# Altium footprint library NewLibrary.PcbLib: 126 footprints (part 5 of 8)
Each footprint in its own frame and in the unit in brackets; x right, y up, seen from the top. Pads: shape width x height; smd on the part's side, far side on the other; paste and mask are expansions set on the pad; w line width, h text height; cw(c..) or ccw(c..) is an arc to the next point about the centre after c.
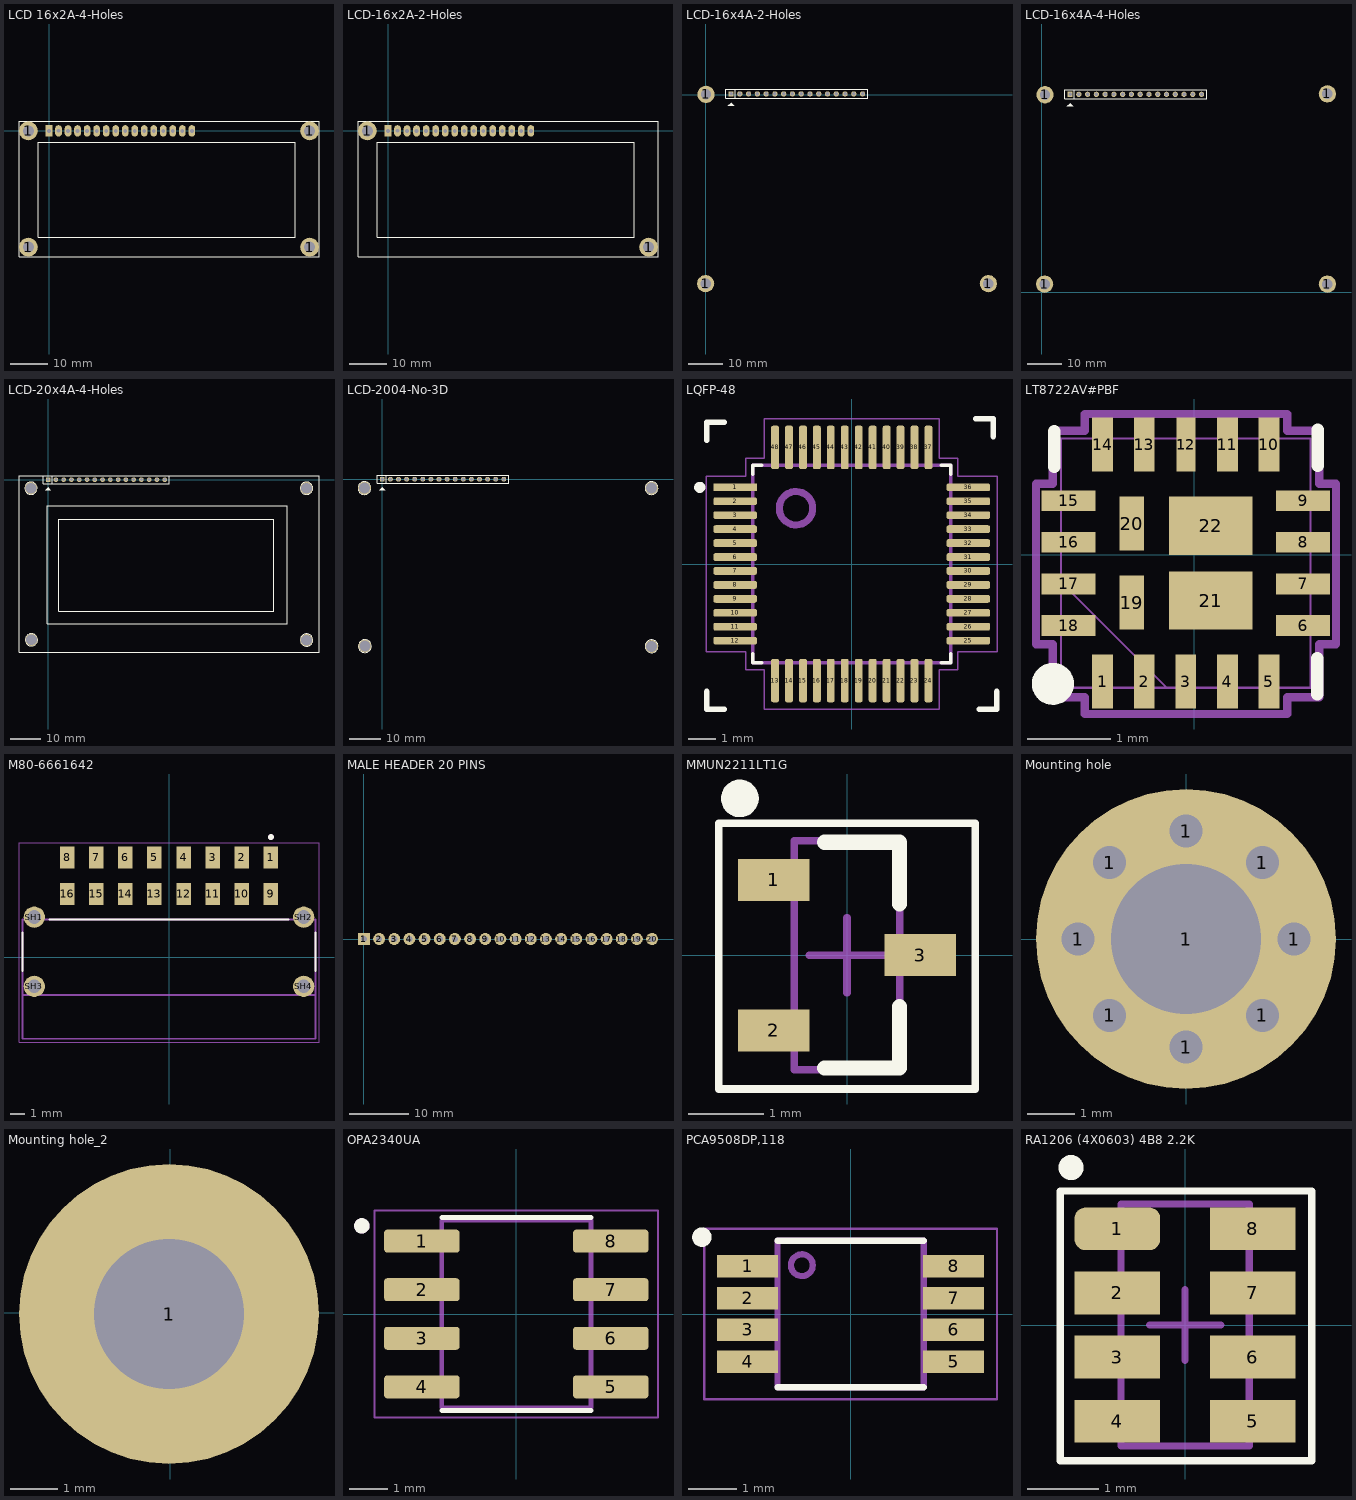
[diagram p4: the footprints below, top view; thin cyan lines are the x and y axes]

## LCD 16x2A-4-Holes [mil] "LCD 16x2 16 Pins"
pads (21):
  round 196.85 hole 118.11: 1(-216.54,-1221.47) 1(-216.54,-1) 1(2736.22,-1221.47) 1(2736.22,-1)
  rect 70x120 hole 39.37: 1(0,-1)
  oval 70x120 hole 39.37: 2(100,-0.98) 3(200,-1) 4(300,-1) 5(400,-1) 6(500,-1) 7(600,-1) 8(700,-1) 9(800,-1) 10(900,-1) 11(1000,-1) 12(1100,-1) 13(1200,-1) 14(1300,-1) 15(1400,-1) 16(1500,-1)
  round 0 all layers, no hole: ""(-216.54,-1)
Top Overlay:
  lines w7.87: -314.96,-1319.9 2834.65,-1319.9 2834.65,97.43 -314.96,97.43 -314.96,-1319.9 ; -115,-1120 2585,-1120 2585,-120 -115,-120 -115,-1120
3D body "jp16.stp": height 468.11, standoff -20.08, extent -48,-53 1548.06,45.43
3D body "socket16.stp": height 276.19, standoff -117.51, extent -47.54,-53.47 1552.46,46.53
3D body "LCD module 16 X 2 backlight.STEP": height 714, standoff 194, extent -309.65,-1338 2859.65,99

## LCD-16x2A-2-Holes [mil] "DIP"
pads (19):
  round 196.85 hole 118.11: 1(-216.54,0) 1(2736.22,-1220.47)
  rect 70x120 hole 39.37: 1(0,0)
  oval 70x120 hole 39.37: 2(100,0.02) 3(200,0) 4(300,0) 5(400,0) 6(500,0) 7(600,0) 8(700,0) 9(800,0) 10(900,0) 11(1000,0) 12(1100,0) 13(1200,0) 14(1300,0) 15(1400,0) 16(1500,0)
  round 0 all layers, no hole: ""(-216.54,0)
Top Overlay:
  lines w7.87: -314.96,-1318.9 2834.65,-1318.9 2834.65,98.43 -314.96,98.43 -314.96,-1318.9 ; -115,-1119 2585,-1119 2585,-119 -115,-119 -115,-1119
3D body "jp16.stp": height 468.11, standoff -20.08, extent -48,-52 1548.06,46.43
3D body "socket16.stp": height 276.19, standoff -117.51, extent -47.54,-52.47 1552.46,47.53
3D body "LCD module 16 X 2 backlight.STEP": height 714, standoff 194, extent -309.65,-1337 2859.65,100

## LCD-16x4A-2-Holes [mm] "DIP"
pads (19):
  round 5 hole 3: 1(0,-54.737) 1(0.127,0.127) 1(81.915,-54.737)
  rect 1.52x1.52 hole 1.02: 1(7.366,0.254)
  round 1.52 hole 1.02: 2(9.906,0.254) 3(12.446,0.254) 4(14.986,0.254) 5(17.526,0.254) 6(20.066,0.254) 7(22.606,0.254) 8(25.146,0.254) 9(27.686,0.254) 10(30.226,0.254) 11(32.766,0.254) 12(35.306,0.254) 13(37.846,0.254) 14(40.386,0.254) 15(42.926,0.254) 16(45.466,0.254)
Top Overlay:
  region: 7.366,-2.286 6.477,-3.175 8.255,-3.175
  lines w0.2: 8.636,-1.016 8.636,1.524 ; 5.846,-1.016 5.846,1.524 8.001,1.524 46.986,1.524 46.986,-1.016 5.846,-1.016
3D body "User Library-FDCC1604A.STEP": height 19.59, standoff 7.19, extent -2.606,-57.206 84.394,2.794
3D body "61301611821.stp": height 8.51, standoff -3.09, extent 5.846,-0.996 46.986,1.504

## LCD-16x4A-4-Holes [mm] "DIP"
pads (20):
  round 5 hole 3: 1(0.762,2.286) 1(0.889,57.15) 1(82.677,2.286) 1(82.677,57.404)
  rect 1.52x1.52 hole 1.02: 1(8.128,57.277)
  round 1.52 hole 1.02: 2(10.668,57.277) 3(13.208,57.277) 4(15.748,57.277) 5(18.288,57.277) 6(20.828,57.277) 7(23.368,57.277) 8(25.908,57.277) 9(28.448,57.277) 10(30.988,57.277) 11(33.528,57.277) 12(36.068,57.277) 13(38.608,57.277) 14(41.148,57.277) 15(43.688,57.277) 16(46.228,57.277)
Top Overlay:
  region: 8.128,54.737 7.239,53.848 9.017,53.848
  lines w0.2: 9.398,56.007 9.398,58.547 ; 6.608,56.007 6.608,58.547 8.763,58.547 47.748,58.547 47.748,56.007 6.608,56.007
3D body "User Library-FDCC1604A.STEP": height 19.59, standoff 7.19, extent -1.844,-0.183 85.156,59.817
3D body "61301611821.stp": height 8.51, standoff -3.09, extent 6.608,56.027 47.748,58.527

## LCD-20x4A-4-Holes [mm]
pads (20):
  rect 1.52x1.52 hole 1.02: 1(0,0)
  round 1.52 hole 1.02: 2(2.54,0) 3(5.08,0) 4(7.62,0) 5(10.16,0) 6(12.7,0) 7(15.24,0) 8(17.78,0) 9(20.32,0) 10(22.86,0) 11(25.4,0) 12(27.94,0) 13(30.48,0) 14(33.02,0) 15(35.56,0) 16(38.1,0)
  round 4 hole 3.5: "Hole 0"(-5.588,-2.794) "Hole 0"(-5.461,-52.324) "Hole 0"(84.455,-52.451) "Hole 0"(84.455,-2.794)
Top Overlay:
  circle w0.178: c84.454,-52.4 r2.008
  circle w0.178: c-5.462,-52.349 r2.008
  circle w0.178: c84.454,-2.794 r2.008
  circle w0.178: c-5.615,-2.794 r2.008
  region: 0,-2.54 -0.889,-3.429 0.889,-3.429
  lines w0.178: -9.525,-56.388 -9.525,1.27 88.519,1.27 88.519,-56.388 -9.5,-56.388 ; -0.279,-47.041 78.13,-47.041 78.13,-8.56 -0.279,-8.56 -0.279,-47.041 ; 3.531,-43.053 73.787,-43.053 73.787,-13.005 3.531,-13.005 3.531,-43.053
  lines w0.2: 1.27,-1.27 1.27,1.27 ; -1.52,-1.27 -1.52,1.27 0.635,1.27 39.62,1.27 39.62,-1.27 -1.52,-1.27
3D body "61301611821.stp": height 8.51, standoff -3.09, extent -1.52,-1.25 39.62,1.25
3D body "User Library-LCD20_4.STEP": height 19.19, standoff 5.39, extent -9.96,-57.511 88.04,2.489

## LCD-2004-No-3D [mm] "DIP"
pads (20):
  rect 1.52x1.52 hole 1.02: 1(0,0)
  round 1.52 hole 1.02: 2(2.54,0) 3(5.08,0) 4(7.62,0) 5(10.16,0) 6(12.7,0) 7(15.24,0) 8(17.78,0) 9(20.32,0) 10(22.86,0) 11(25.4,0) 12(27.94,0) 13(30.48,0) 14(33.02,0) 15(35.56,0) 16(38.1,0)
  round 4 hole 3.5: "Hole 0"(-5.588,-2.794) "Hole 0"(-5.461,-52.324) "Hole 0"(84.455,-52.451) "Hole 0"(84.455,-2.794)
Top Overlay:
  circle w0.178: c-5.615,-2.794 r2.008
  circle w0.178: c84.454,-2.794 r2.008
  circle w0.178: c-5.462,-52.349 r2.008
  circle w0.178: c84.454,-52.4 r2.008
  region: 0,-2.54 -0.889,-3.429 0.889,-3.429
  lines w0.2: 1.27,-1.27 1.27,1.27 ; -1.52,-1.27 39.62,-1.27 39.62,1.27 0.635,1.27 -1.52,1.27 -1.52,-1.27
3D body "61301611821.stp": height 8.51, standoff -3.09, extent -1.52,-1.25 39.62,1.25

## LQFP-48 [mm]
pads (48):
  rect 1.56x0.28 smd: 1(-4.18,2.75)
  rrect50% 1.56x0.28 smd: 2(-4.18,2.25) 3(-4.18,1.75) 4(-4.18,1.25) 5(-4.18,0.75) 6(-4.18,0.25) 7(-4.18,-0.25) 8(-4.18,-0.75) 9(-4.18,-1.25) 10(-4.18,-1.75) 11(-4.18,-2.25) 12(-4.18,-2.75) 25(4.18,-2.75) 26(4.18,-2.25) 27(4.18,-1.75) 28(4.18,-1.25) 29(4.18,-0.75) 30(4.18,-0.25) 31(4.18,0.25) 32(4.18,0.75) 33(4.18,1.25) 34(4.18,1.75) 35(4.18,2.25) 36(4.18,2.75)
  rrect50% 0.28x1.56 smd: 13(-2.75,-4.18) 14(-2.25,-4.18) 15(-1.75,-4.18) 16(-1.25,-4.18) 17(-0.75,-4.18) 18(-0.25,-4.18) 19(0.25,-4.18) 20(0.75,-4.18) 21(1.25,-4.18) 22(1.75,-4.18) 23(2.25,-4.18) 24(2.75,-4.18) 37(2.75,4.18) 38(2.25,4.18) 39(1.75,4.18) 40(1.25,4.18) 41(0.75,4.18) 42(0.25,4.18) 43(-0.25,4.18) 44(-0.75,4.18) 45(-1.25,4.18) 46(-1.75,4.18) 47(-2.25,4.18) 48(-2.75,4.18)
Top Overlay:
  circle w0.2: c-5.45,2.75 r0.1
  lines w0.127: -3.55,-3.22 -3.55,-3.55 -3.22,-3.55 ; -3.55,3.22 -3.55,3.55 -3.22,3.55 ; 3.22,-3.55 3.55,-3.55 3.55,-3.22 ; 3.22,3.55 3.55,3.55 3.55,3.22
  lines w0.2: -5.207,-4.572 -5.207,-5.207 -4.572,-5.207 ; -5.207,4.445 -5.207,5.08 -4.572,5.08 ; 4.445,5.207 5.08,5.207 5.08,4.572 ; 4.572,-5.207 5.207,-5.207 5.207,-4.572
Mechanical 13:
  drawing of 53 lines, arcs and shapes, not listed
Mechanical 15:
  lines w0.05: -5.21,-3.14 -5.21,3.14 -3.8,3.14 -3.8,3.8 -3.14,3.8 -3.14,5.21 3.14,5.21 3.14,3.8 3.8,3.8 3.8,3.14 5.21,3.14 5.21,-3.14 3.8,-3.14 3.8,-3.8 3.14,-3.8 3.14,-5.21 -3.14,-5.21 -3.14,-3.8 -3.8,-3.8 -3.8,-3.14 -5.21,-3.14
3D body "W5500--3DModel-STEP-56544.STEP": height 1.6, standoff 0, extent -4.5,-4.5 4.5,4.5

## LT8722AV#PBF [mm]
pads (22):
  rect 0.25x0.65 smd paste+0 mask+0: 1(-1.102,-1.527) 2(-0.602,-1.527) 3(-0.102,-1.527) 4(0.398,-1.527) 5(0.898,-1.527) 10(0.898,1.323) 11(0.398,1.323) 13(-0.602,1.323) 14(-1.102,1.323)
  rect 0.65x0.25 smd paste+0 mask+0: 6(1.308,-0.852) 7(1.308,-0.352) 8(1.308,0.148) 9(1.308,0.648) 15(-1.512,0.648) 16(-1.512,0.148) 17(-1.512,-0.352) 18(-1.512,-0.852)
  rect 0.229x0.65 smd paste+0 mask+0: 12(-0.102,1.323)
  rect 0.3x0.65 smd paste+0 mask+0: 19(-0.752,-0.577) 20(-0.752,0.373)
  rect 1x0.7 smd paste+0 mask+0: 21(0.198,-0.552) 22(0.198,0.348)
Top Overlay:
  circle w0.254: c-1.7,-1.553 r0.126
  lines w0.152: -1.683,1.057 -1.683,1.485 ; 1.479,-1.675 1.479,-1.247 ; 1.483,1.071 1.483,1.499
Mechanical 13:
  lines w0.025: -1.6,-0.33 -0.33,-1.6 ; -1.6,-1.6 -1.6,1.397 1.397,1.397 1.397,-1.6 -1.6,-1.6 ; -1.6,-0.991 -1.6,-0.712 -1.6,-0.991 ; -1.6,-0.491 -1.6,-0.212 -1.6,-0.491 ; -1.6,0.009 -1.6,0.288 -1.6,0.009 ; -1.6,0.509 -1.6,0.788 -1.6,0.509 ; -1.241,-1.6 -0.962,-1.6 -1.241,-1.6 ; -1.241,1.397 -0.962,1.397 -1.241,1.397 ; -0.741,-1.6 -0.462,-1.6 -0.741,-1.6 ; -0.741,1.397 -0.462,1.397 -0.741,1.397 ; -0.241,-1.6 0.038,-1.6 -0.241,-1.6 ; -0.241,1.397 0.038,1.397 -0.241,1.397 ; 0.259,-1.6 0.538,-1.6 0.259,-1.6 ; 0.259,1.397 0.538,1.397 0.259,1.397 ; 0.759,-1.6 1.038,-1.6 0.759,-1.6 ; 0.759,1.397 1.038,1.397 0.759,1.397 ; 1.397,-0.991 1.397,-0.712 1.397,-0.991 ; 1.397,-0.491 1.397,-0.212 1.397,-0.491 ; 1.397,0.009 1.397,0.288 1.397,0.009 ; 1.397,0.509 1.397,0.788 1.397,0.509
Mechanical 15:
  lines w0.1: -1.903,-1.078 -1.903,0.854 -1.7,0.854 -1.7,1.488 -1.315,1.488 -1.315,1.691 1.116,1.691 1.116,1.488 1.501,1.488 1.501,0.854 1.704,0.854 1.704,-1.078 1.501,-1.078 1.501,-1.712 1.116,-1.712 1.116,-1.915 -1.315,-1.915 -1.315,-1.712 -1.7,-1.712 -1.7,-1.078 -1.903,-1.078
3D body "LQFN18_3X3X095_ADI.step": height 1.04, standoff 0, extent -1.601,-1.601 1.397,1.397
3D body: height 0.25, standoff 0, extent -0.102,-0.102 0.152,0.152

## M80-6661642 [mm] "Connector Header Surface Mount, Right Angle 16 position 0.079\" (2.00mm)"
pads (20):
  rect 1x1.5 smd: 1(7,6.85) 2(5,6.85) 3(3,6.85) 4(1,6.85) 5(-1,6.85) 6(-3,6.85) 7(-5,6.85) 8(-7,6.85) 9(7,4.35) 10(5,4.35) 11(3,4.35) 12(1,4.35) 13(-1,4.35) 14(-3,4.35) 15(-5,4.35) 16(-7,4.35)
  round 1.458 hole 0.95: SH1(-9.25,2.75) SH2(9.25,2.75) SH3(-9.25,-2) SH4(9.25,-2)
Top Overlay:
  circle w0.2: c7,8.25 r0.1
  lines w0.127: -10.05,-0.95 -10.05,1.7 ; -8.2,2.6 8.2,2.6 ; 10.05,-0.95 10.05,1.7
Mechanical 13:
  circle w0.2: c7,8.25 r0.1
  lines w0.127: -10.05,-2.6 10.05,-2.6 ; -10.05,-2.6 -10.05,2.6 10.05,2.6 10.05,-2.6 ; -10.05,-2.6 -10.05,-5.6 10.05,-5.6 10.05,-2.6
Mechanical 15:
  lines w0.05: -10.3,-5.85 10.3,-5.85 10.3,7.85 -10.3,7.85 -10.3,-5.85
3D body "m80-6661642.x_t": height 6.03, standoff -2.87, extent -9.95,-5.84 9.95,7.11

## MALE HEADER 20 PINS [mm]
pads (20):
  rect 2x2 hole 1.02: 1(0,0)
  round 2 hole 1.02: 2(2.54,0) 3(5.08,0) 4(7.62,0) 5(10.16,0) 6(12.7,0) 7(15.24,0) 8(17.78,0) 9(20.32,0) 10(22.86,0) 11(25.4,0) 12(27.94,0) 13(30.48,0) 14(33.02,0) 15(35.56,0) 16(38.1,0) 17(40.64,0) 18(43.18,0) 19(45.72,0) 20(48.26,0)
3D body "61302011821.stp": height 8.51, standoff -3.09, extent -1.52,-1.25 49.78,1.25

## MMUN2211LT1G [mm] "SOT−23 (TO−236) 2.90x1.30x1.00 1.90P"
height 1.11
pads (3):
  rect 0.95x0.56 smd: 1(-0.975,1) 2(-0.975,-1) 3(0.975,0)
Top Overlay:
  circle w0.25: c-1.422,2.083 r0.125
  lines w0.1: -1.702,-1.778 1.702,-1.778 1.702,1.753 -1.702,1.753 -1.702,-1.778
  lines w0.2: -0.3,-1.5 0.7,-1.5 0.7,-0.68 ; -0.3,1.5 0.7,1.5 0.7,0.68
Mechanical 13:
  lines w0.1: -0.7,-1.52 0.7,-1.52 0.7,1.52 -0.7,1.52 -0.7,-1.52
Mechanical 15:
  lines w0.1: -0.5,0 0.5,0 ; 0,-0.5 0,0.5
3D body "MMUN2211LT1G.step": height 1.11, standoff 0, extent -1.32,-1.52 1.32,1.52

## Mounting hole [mm]
pads (9):
  round 1 hole 0.7: 1(-2.286,0) 1(-1.616,-1.616) 1(-1.616,1.616) 1(0,-2.286) 1(0,2.286) 1(1.616,-1.616) 1(1.616,1.616) 1(2.286,0)
  round 6.35 hole 3.18: 1(0,0)

## Mounting hole_2 [mil]
pads (1):
  round 250 hole 125.2: 1(-1,-1)

## OPA2340UA [mm] "Dual single-supply, rail-to-rail, low power operational amplifier"
pads (8):
  rrect25% 1.97x0.6 smd: 1(-2.47,1.905) 2(-2.47,0.635) 3(-2.47,-0.635) 4(-2.47,-1.905) 5(2.47,-1.905) 6(2.47,-0.635) 7(2.47,0.635) 8(2.47,1.905)
Top Overlay:
  circle w0.2: c-4.04,2.305 r0.1
  lines w0.127: -1.95,-2.525 1.95,-2.525 ; -1.95,2.525 1.95,2.525
Mechanical 13:
  circle w0.2: c-4.04,2.305 r0.1
  lines w0.127: -1.95,-2.452 -1.95,2.452 1.95,2.452 1.95,-2.452 -1.95,-2.452
Mechanical 15:
  lines w0.05: -3.705,-2.702 -3.705,2.702 3.705,2.702 3.705,-2.702 -3.705,-2.702
3D body "OPA2340UA.STEP": height 1.75, standoff 0, extent -3.102,-2.45 2.898,2.45

## PCA9508DP,118 [mm] "Buffer, ReDriver 1 Channel 400kHz 8-TSSOP"
pads (8):
  rect 1.25x0.46 smd: 1(-2.11,0.975) 2(-2.11,0.325) 3(-2.11,-0.325) 4(-2.11,-0.975) 5(2.11,-0.975) 6(2.11,-0.325) 7(2.11,0.325) 8(2.11,0.975)
Top Overlay:
  circle w0.2: c-3.05,1.575 r0.1
  lines w0.127: -1.5,-1.5 1.5,-1.5 ; -1.5,1.5 1.5,1.5
Mechanical 13:
  circle w0.127: c-1,1 r0.224
  lines w0.127: -1.5,-1.5 -1.5,1.5 1.5,1.5 1.5,-1.5 -1.5,-1.5
Mechanical 15:
  lines w0.05: -3,-1.75 -3,1.75 3,1.75 3,-1.75 -3,-1.75
3D body "step_temp.STEP": height 1.1, standoff 0, extent -2.45,-1.5 2.45,1.5

## RA1206 (4X0603) 4B8 2.2K [mm] "SON, 8-Leads, Body 3.20x1.60mm, Pitch 0.90mm, Thermal Pad 3.20x0.00mm, IPC Medium Density"
height 0.6
pads (8):
  rrect50% 1.2x0.6 smd: 1(-0.95,1.35)
  rect 1.2x0.6 smd: 2(-0.95,0.45) 3(-0.95,-0.45) 4(-0.95,-1.35) 5(0.95,-1.35) 6(0.95,-0.45) 7(0.95,0.45) 8(0.95,1.35)
Top Overlay:
  circle w0.25: c-1.6,2.21 r0.05
  lines w0.1: -0.889,-1.905 0.889,-1.905 ; -0.889,-1.905 0.889,-1.905 ; -0.889,-1.905 -1.753,-1.905 -1.753,1.88 -0.864,1.88 0.914,1.88 1.778,1.88 1.778,-1.905 0.889,-1.905
Mechanical 13:
  lines w0.1: -0.9,-1.7 0.9,-1.7 0.9,1.7 -0.9,1.7 -0.9,-1.7
Mechanical 15:
  lines w0.1: -0.5,0 0.5,0 ; 0,-0.5 0,0.5
3D body "RA1206 (4X0603) 4B8 2.2K.step": height 0.6, standoff 0, extent -1,-1.7 1,1.7